# Altium schematic symbol library Transistors.SchLib: 18 symbols
Pins are listed as number, name and electrical type; pins without a type are passive.

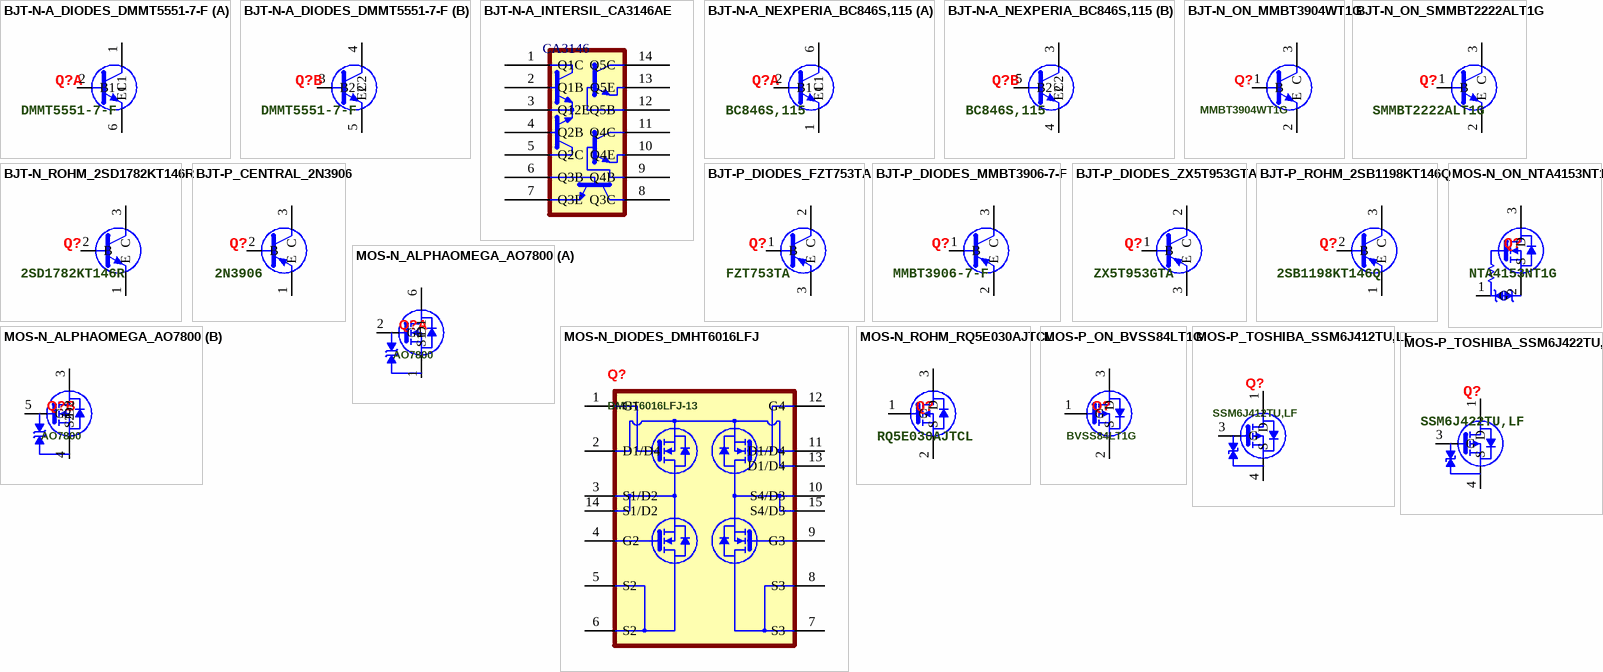
[diagram p0: symbols BJT-N-A_DIODES_DMMT5551-7-F to MOS-P_TOSHIBA_SSM6J422TU,LF]

## BJT-N-A_DIODES_DMMT5551-7-F
designator Q?, comment DMMT5551-7-F
Bipolar (BJT) Transistor Array 2 NPN (Dual) Matched Pair 160V 200mA 300MHz 300mW Surface Mount SOT-26; Manufacturer: Diodes; hFE Min: 80; Collector Base Voltage (VCBO): 180V; Emitter Base Voltage (VEBO): 6V; Collector Emitter Saturation Voltage: 200mV; Manufacturer Part Number: DMMT5551-7-F; Category: Transistors - Bipolar (BJT) - Arrays; Case/Package: SOT-26; Min Operating Temperature: -55°C; Max Operating Temperature: 150°C; Max Collector Current: 200mA; Transition Frequency: 300MHz; Collector Emitter Breakdown Voltage: 160V; Polarity: NPN; Current Rating: 200mA; RoHS Compliant: Yes; ComponentLink1URL: https://www.diodes.com/assets/Datasheets/ds30436.pdf; ComponentLink1Description: Datasheet; Mounting Type: SMD/SMT; Power Dissipation (Max): 300mW; Supplier 1: Digi-Key; Supplier 2: Mouser; Supplier Part Number 1: DMMT5551-FDICT-ND; Supplier Part Number 2: 621-DMMT5551-F
simulation model DMMT5551 (Model Description)
footprint SOT95P285X135-6N (SOT23, 6-Leads, Body 3.00x2.85mm, Pitch 0.95mm, IPC Medium Density)
footprint SOT95P285X135-6L (SOT23, 6-Leads, Body 3.00x2.85mm, Pitch 0.95mm, IPC High Density)
footprint SOT95P285X135-6M (SOT23, 6-Leads, Body 3.00x2.85mm, Pitch 0.95mm, IPC Low Density)
part A pins: 1 C1, 2 B1, 6 E1
part B pins: 3 B2, 4 C2, 5 E2

## BJT-N-A_INTERSIL_CA3146AE
designator CA3146, comment CA3146AE  (value not drawn)
Bipolar (BJT) Transistor Array NPN 72 V 50 mA 500MHz 300 mW Through-Hole PDIP-14 (DIP-14); Manufacturer: Rochester Electronics; Collector Base Voltage (VCBO): 72V; Collector Emitter Breakdown Voltage: 40V; Current Rating: 50mA; Emitter Base Voltage (VEBO): 7V; hFE Min: 30; Supplier 1: Rochester Electronics; Supplier Part Number 1: CA3146AE; Manufacturer Part Number: CA3146AE; Case/Package: 14-PDIP; Category: Transistors - Bipolar (BJT) - Arrays; Max Collector Current: 50mA; Mounting Type: Through Hole; Polarity: NPN; RoHS Compliant: No; Transition Frequency: 500MHz; ComponentLink1Description: Datasheet; ComponentLink1URL: C:\Users\Public\Documents\Altium\Projects\My-PCB-Library\Datasheets\CA3146.pdf
footprint DIP762W52P254L1905H533Q14 (Dual-In-Line Package; Lead Span 7.62mm, Lead Width 0.52mm, Pin Pitch 2.54mm, Body Length 19.05mm, Body Height 5.33mm, Pin Qty 14)
footprint DIP762W52P254L1905H533Q14-SKT (Dual-In-Line Package; Lead Span 7.62mm, Lead Width 0.52mm, Pin Pitch 2.54mm, Body Length 19.05mm, Body Height 5.33mm, Pin Qty 14 Socketed)
pins: 1 Q1C "Diff Pair", 2 Q1B "Diff Pair", 3 Q12E "Diff Pair", 4 Q2B "Diff Pair", 5 Q2C "Diff Pair", 6 Q3B, 7 Q3E, 8 Q3C, 9 Q4B, 10 Q4E, 11 Q4C, 12 Q5B "Substrate", 13 Q5E, 14 Q5C

## BJT-N-A_NEXPERIA_BC846S,115
designator Q?, comment BC846S,115
Bipolar (BJT) Transistor Array 2 NPN (Dual) 65V 100mA 100MHz 300mW Surface Mount 6-TSSOP; Manufacturer: Nexperia; Collector Base Voltage (VCBO): 80V; Collector Emitter Saturation Voltage: 300mV; Current Rating: 200mA; Emitter Base Voltage (VEBO): 6V; hFE Min: 110; Power Dissipation (Max): 200mW; Manufacturer Part Number: BC846S,115; Category: Transistors - Bipolar (BJT) - Arrays; RoHS Compliant: Yes; ComponentLink1URL: https://assets.nexperia.com/documents/data-sheet/BC846S.pdf; ComponentLink1Description: Datasheet; Collector Emitter Breakdown Voltage: 65V; Max Collector Current: 100mA; Mounting Type: SMD/SMT; Polarity: NPN; Supplier 1: Digi-Key; Supplier 2: Mouser; Supplier Part Number 1: 1727-6189-1-ND; Supplier Part Number 2: 771-BC846S-T/R; Transition Frequency: 100MHz
footprint TSOP65P210X110-6N (TSOP, 6-Leads, Body 2.00x1.25mm, Pitch 0.65mm, IPC Medium Density)
footprint TSOP65P210X110-6L (TSOP, 6-Leads, Body 2.00x1.25mm, Pitch 0.65mm, IPC High Density)
footprint TSOP65P210X110-6M (TSOP, 6-Leads, Body 2.00x1.25mm, Pitch 0.65mm, IPC Low Density)
simulation model BC846S (Model Description)
part A pins: 1 E1, 2 B1, 6 C1
part B pins: 3 C2, 4 E2, 5 B2

## BJT-N_ON_MMBT3904WT1G
designator Q?, comment MMBT3904WT1G
Bipolar (BJT) Transistor NPN 40 V 200 mA 300MHz 150 mW Surface Mount SC-70-3 (SOT323); Manufacturer: ON Semiconductor; hFE Min: 40; Max Collector Current: 200mA; Collector Emitter Breakdown Voltage: 40V; Collector Base Voltage (VCBO): 60V; Emitter Base Voltage (VEBO): 6V; Collector Emitter Saturation Voltage: 300mV; Current Rating: 8.6A; Power Dissipation (Max): 150mW; Supplier 1: Digi-Key; Manufacturer Part Number: MMBT3904WT1G; Category: Transistors - Bipolar (BJT) - Single; Case/Package: SOT-323; Min Operating Temperature: -55°C; Max Operating Temperature: 150°C; Polarity: NPN; RoHS Compliant: Yes; ComponentLink1URL: https://www.onsemi.com/pdf/datasheet/mmbt3904wt1-d.pdf; ComponentLink1Description: Datasheet; Supplier Part Number 1: MMBT3904WT1GOSCT-ND; Transition Frequency: 300MHz; Mounting Type: SMD/SMT
footprint SOT65P220X100-3N (SOT23, 3-Leads, Body 2.00x2.20mm, Pitch 0.65mm, IPC Medium Density)
footprint SOT65P220X100-3L (SOT23, 3-Leads, Body 2.00x2.20mm, Pitch 0.65mm, IPC High Density)
footprint SOT65P220X100-3M (SOT23, 3-Leads, Body 2.00x2.20mm, Pitch 0.65mm, IPC Low Density)
simulation model QMMBT3904LT1/ON (Model Description)
pins: 1 B, 2 E, 3 C

## BJT-N_ON_SMMBT2222ALT1G
designator Q?, comment SMMBT2222ALT1G
Bipolar (BJT) Transistor NPN 40 V 600 mA 300MHz 225 mW Surface Mount SOT-23-3 (TO-236); Manufacturer: ON Semiconductor; hFE Min: 100; Max Collector Current: 600mA; Collector Emitter Breakdown Voltage: 40V; Collector Base Voltage (VCBO): 75V; Emitter Base Voltage (VEBO): 6V; Collector Emitter Saturation Voltage: 1V; Power Dissipation (Max): 225mW; Manufacturer Part Number: SMMBT2222ALT1G; Category: Transistors - Bipolar (BJT) - Single; Case/Package: SOT-23-3; Min Operating Temperature: -55°C; Max Operating Temperature: 150°C; Polarity: NPN; RoHS Compliant: Yes; ComponentLink1URL: https://www.digikey.com/htmldatasheets/production/100626/0/0/2/mmbt2222lt1.pdf; ComponentLink1Description: Datasheet; Supplier 1: Digi-Key; Supplier Part Number 1: SMMBT2222ALT1GOSCT-ND; Supplier 2: Mouser; Supplier Part Number 2: 863-SMMBT2222ALT1G; Transition Frequency: 300MHz; Mounting Type: SMD/SMT
simulation model Qmmbt2222alt1g (Model Description)
footprint SOT95P237X111-3N (SOT23, 3-Leads, Body 2.92x2.37mm, Pitch 0.95mm, IPC Medium Density)
footprint SOT95P237X111-3M (SOT23, 3-Leads, Body 2.92x2.37mm, Pitch 0.95mm, IPC Low Density)
footprint SOT95P237X111-3L (SOT23, 3-Leads, Body 2.92x2.37mm, Pitch 0.95mm, IPC High Density)
pins: 1 B, 2 E, 3 C

## BJT-N_ROHM_2SD1782KT146R
designator Q?, comment 2SD1782KT146R
Bipolar (BJT) Transistor NPN 80 V 500 mA 120MHz 200 mW Surface Mount SMT3; Manufacturer: Rohm; hFE Min: 120; Max Collector Current: 500mA; Collector Base Voltage (VCBO): 80V; Emitter Base Voltage (VEBO): 5V; Collector Emitter Saturation Voltage: 500mV; Power Dissipation (Max): 200mW; Manufacturer Part Number: 2SD1782KT146R; Category: Transistors - Bipolar (BJT) - Single; Case/Package: SMT3; Min Operating Temperature: -55°C; Max Operating Temperature: 150°C; Polarity: NPN; Collector Emitter Breakdown Voltage: 80V; Current Rating: 500mA; RoHS Compliant: Yes; ComponentLink1Description: Datasheet; ComponentLink1URL: https://fscdn.rohm.com/en/products/databook/datasheet/discrete/transistor/bipolar/2sd1782k-e.pdf; Supplier 1: Digi-Key; Supplier Part Number 1: 2SD1782KT146RCT-ND; Supplier 2: Mouser; Supplier Part Number 2: 755-2SD1782KT146R; Transition Frequency: 120MHz; Mounting Type: SMD/SMT
footprint SOT95P280X130-3N (SOT23, 3-Leads, Body 2.90x2.80mm, Pitch 0.95mm, IPC Medium Density)
footprint SOT95P280X130-3L (SOT23, 3-Leads, Body 2.90x2.80mm, Pitch 0.95mm, IPC High Density)
footprint SOT95P280X130-3M (SOT23, 3-Leads, Body 2.90x2.80mm, Pitch 0.95mm, IPC Low Density)
simulation model Q2SD1782K (Model Description)
pins: 1 E, 2 B, 3 C

## BJT-P_CENTRAL_2N3906
designator Q?, comment 2N3906
Bipolar (BJT) Transistor PNP 40 V 250MHz Through Hole TO-92-3; Manufacturer: Central Semiconductor; hFE Min: 100; Max Collector Current: 50nA; Collector Base Voltage (VCBO): 40V; Emitter Base Voltage (VEBO): 5V; Collector Emitter Saturation Voltage: 400mV; Current Rating: 200mA; Power Dissipation (Max): 625mW; Manufacturer Part Number: 2N3906; Category: Transistors - Bipolar (BJT) - Single; Mounting Type: Through Hole; Case/Package: TO-92; Transition Frequency: 250MHz; Polarity: PNP; Collector Emitter Breakdown Voltage: 40V; RoHS Compliant: Yes; ComponentLink1URL: https://my.centralsemi.com/datasheets/2N3905.PDF; ComponentLink1Description: Datasheet; Max Operating Temperature: 150°C; Min Operating Temperature: -65°C; Supplier 1: Digi-Key; Supplier 2: Mouser; Supplier Part Number 1: 1514-2N3906PBFREE-ND; Supplier Part Number 2: 610-2N3906
footprint TO-226-3 (Transistor Outline 3 Leads)
simulation model 2N3906 (Model Description)
pins: 1 E, 2 B, 3 C

## BJT-P_DIODES_FZT753TA
designator Q?, comment FZT753TA
Bipolar (BJT) Transistor PNP 100 V 2 A 140MHz 2 W Surface Mount SOT-223-3; Manufacturer: Diodes Zetex; Max Collector Current: 2A; Collector Base Voltage (VCBO): 120V; Collector Emitter Breakdown Voltage: 100V; Emitter Base Voltage (VEBO): 5V; Collector Emitter Saturation Voltage: -300mV; Current Rating: -2A; hFE Min: 25; Power Dissipation (Max): 2W; Manufacturer Part Number: FZT753TA; Category: Transistors - Bipolar (BJT) - Single; Case/Package: SOT-223; Min Operating Temperature: -55°C; Max Operating Temperature: 150°C; Transition Frequency: 140MHz; Polarity: PNP; RoHS Compliant: Yes; ComponentLink1URL: https://www.diodes.com/assets/Datasheets/FZT753.pdf; ComponentLink1Description: Datasheet; Supplier 1: Digi-Key; Supplier 2: Mouser; Supplier Part Number 1: FZT753CT-ND; Supplier Part Number 2: 522-FZT753TA; Mounting Type: SMD/SMT
footprint SOT230P700X160-4N (SOT223, 4-Leads, Body 6.50x7.00mm (avg), Pitch 2.30mm, IPC Medium Density)
footprint SOT230P700X160-4L (SOT223, 4-Leads, Body 6.50x7.00mm (avg), Pitch 2.30mm, IPC High Density)
footprint SOT230P700X160-4M (SOT223, 4-Leads, Body 6.50x7.00mm (avg), Pitch 2.30mm, IPC Low Density)
simulation model FZT753 (Model Description)
pins: 1 B, 2 C, 3 E, TAB C

## BJT-P_DIODES_MMBT3906-7-F
designator Q?, comment MMBT3906-7-F
Bipolar (BJT) Transistor PNP 40 V 200 mA 250MHz 300 mW Surface Mount SOT-23-3; Manufacturer: Diodes Zetex; hFE Min: 100; Max Collector Current: 200mA; Collector Emitter Breakdown Voltage: 40V; Emitter Base Voltage (VEBO): -5V; Collector Emitter Saturation Voltage: -400mV; Current Rating: -200mA; Power Dissipation (Max): 300mW; Manufacturer Part Number: MMBT3906-7-F; Category: Transistors - Bipolar (BJT) - Single; Case/Package: SOT-23-3; Min Operating Temperature: -55°C; Max Operating Temperature: 150°C; Polarity: PNP; Transition Frequency: 250MHz; Collector Base Voltage (VCBO): 40V; RoHS Compliant: Yes; ComponentLink1URL: https://www.digikey.com/htmldatasheets/production/61187/0/0/1/mmbt3906-7-f.pdf; ComponentLink1Description: Datasheet; Supplier 1: Digi-Key; Supplier 2: Mouser; Supplier Part Number 1: MMBT3906-FDICT-ND; Supplier Part Number 2: 621-MMBT3906-F; Mounting Type: SMD/SMT
simulation model DI_MMBT3906 (Model Description)
footprint SOT95P237X111-3N (SOT23, 3-Leads, Body 2.92x2.37mm, Pitch 0.95mm, IPC Medium Density)
footprint SOT95P237X111-3L (SOT23, 3-Leads, Body 2.92x2.37mm, Pitch 0.95mm, IPC High Density)
footprint SOT95P237X111-3M (SOT23, 3-Leads, Body 2.92x2.37mm, Pitch 0.95mm, IPC Low Density)
pins: 1 B, 2 E, 3 C

## BJT-P_DIODES_ZX5T953GTA
designator Q?, comment ZX5T953GTA
Bipolar (BJT) Transistor PNP 100 V 5 A 125MHz 3 W Surface Mount SOT-223-3; Manufacturer: Diodes Zetex; hFE Min: 15; Max Collector Current: 5A; Collector Emitter Breakdown Voltage: 100V; Collector Base Voltage (VCBO): 140V; Emitter Base Voltage (VEBO): -7V; Collector Emitter Saturation Voltage: -340mV; Current Rating: -5A; Power Dissipation (Max): 3W; Manufacturer Part Number: ZX5T953GTA; Category: Transistors - Bipolar (BJT) - Single; Case/Package: SOT-223; Min Operating Temperature: -55°C; Max Operating Temperature: 150°C; Polarity: PNP; RoHS Compliant: Yes; ComponentLink1URL: https://www.digikey.com/htmldatasheets/production/120890/0/0/1/zx5t953g.pdf; ComponentLink1Description: Datasheet; Supplier 1: Digi-Key; Supplier 2: Mouser; Supplier Part Number 1: ZX5T953GCT-ND; Supplier Part Number 2: 522-ZX5T953GTA; Transition Frequency: 125MHz; Mounting Type: SMD/SMT
footprint SOT230P700X160-4N (SOT223, 4-Leads, Body 6.50x7.00mm (avg), Pitch 2.30mm, IPC Medium Density)
footprint SOT230P700X160-4L (SOT223, 4-Leads, Body 6.50x7.00mm (avg), Pitch 2.30mm, IPC High Density)
footprint SOT230P700X160-4M (SOT223, 4-Leads, Body 6.50x7.00mm (avg), Pitch 2.30mm, IPC Low Density)
simulation model ZX5T953G (Model Description)
pins: 1 B, 2 C, 3 E, TAB C

## BJT-P_ROHM_2SB1198KT146Q
designator Q?, comment 2SB1198KT146Q
Bipolar (BJT) Transistor PNP 80 V 500 mA 180MHz 200 mW Surface Mount SMT3; Manufacturer: Rohm; Max Collector Current: 500mA; Emitter Base Voltage (VEBO): 5V; Collector Base Voltage (VCBO): 80V; hFE Min: 120; Collector Emitter Saturation Voltage: 500mV; Power Dissipation (Max): 200mW; Manufacturer Part Number: 2SB1198KT146Q; Category: Transistors - Bipolar (BJT) - Single; Case/Package: SMT3; Min Operating Temperature: -55°C; Max Operating Temperature: 150°C; Collector Emitter Breakdown Voltage: 80V; Polarity: PNP; Current Rating: 500mA; ComponentLink1URL: https://www.digikey.com/htmldatasheets/production/107824/0/0/1/2sb1198k.pdf; ComponentLink1Description: Datasheet; RoHS Compliant: Yes; Supplier 1: Digi-Key; Supplier 2: Mouser; Supplier Part Number 1: 2SB1198KT146QCT-ND; Supplier Part Number 2: 755-2SB1198KT146Q; Transition Frequency: 180MHz; Mounting Type: SMD/SMT
footprint SOT95P280X130-3N (SOT23, 3-Leads, Body 2.90x2.80mm, Pitch 0.95mm, IPC Medium Density)
footprint SOT95P280X130-3L (SOT23, 3-Leads, Body 2.90x2.80mm, Pitch 0.95mm, IPC High Density)
footprint SOT95P280X130-3M (SOT23, 3-Leads, Body 2.90x2.80mm, Pitch 0.95mm, IPC Low Density)
simulation model Q2SB1198K (Model Description)
pins: 1 E, 2 B, 3 C

## MOS-N_ALPHAOMEGA_AO7800
designator Q?, comment AO7800
Mosfet Array 2 N-Channel (Dual) 20V 900mA 300mW Surface Mount SC-70-6; Manufacturer: Alpha & Omega Semiconductor; Input Capacitance: 120pF; Drive Voltage (Max Rds On, Min Rds On): 1.8V, 4.5V; Rds On (Max) @ Id, Vgs: 300mR @900mA, 4.5V; Vgs (Max): ±8V; Vgs(th) (Max) @ Id: 900mV; Manufacturer Part Number: AO7800; Category: Transistors - FETs, MOSFETs - Arrays; Case/Package: SOT-363; Min Operating Temperature: -55°C; Max Operating Temperature: 150°C; Drain to Source Voltage (Vdss): 20V; FET Type: 2 N-Channel; RoHS Compliant: Yes; ComponentLink1URL: http://www.aosmd.com/res/data_sheets/AO7800.pdf; ComponentLink1Description: Datasheet; Supplier Part Number 1: 785-1094-2-ND; Current - Continuous Drain (Id): 900mA; Power Dissipation (Max): 300mW; Technology: MOSFET (Metal Oxide); Supplier 1: Digi-Key; Mounting Type: SMD/SMT
footprint SOT65P210X100-6N (SOT23, 6-Leads, Body 2.00x2.10mm, Pitch 0.65mm, IPC Medium Density)
footprint SOT65P210X100-6L (SOT23, 6-Leads, Body 2.00x2.10mm, Pitch 0.65mm, IPC High Density)
footprint SOT65P210X100-6M (SOT23, 6-Leads, Body 2.00x2.10mm, Pitch 0.65mm, IPC Low Density)
simulation model FDG6335N (Model Description)
part A pins: 1 S1, 2 G1, 6 D1
part B pins: 3 D2, 4 S2, 5 G2

## MOS-N_DIODES_DMHT6016LFJ
designator Q?, comment DMHT6016LFJ-13
Mosfet Array 4 N-Channel 14.8A (Ta) Surface Mount V-DFN5045-12; Manufacturer: Diodes; Input Capacitance: 864pF; Drain to Source Voltage (Vdss): 60V; Drive Voltage (Max Rds On, Min Rds On): 4.5V, 10V; Power Dissipation (Max): 2.7W; Rds On (Max) @ Id, Vgs: 22mR @ 10A, 10V; Vgs (Max): ±20V; Vgs(th) (Max) @ Id: 3V @ 250uA; ComponentLink1Description: Datasheet; ComponentLink1URL: https://www.diodes.com/assets/Datasheets/DMHT6016LFJ.pdf; Manufacturer Part Number: DMHT6016LFJ-13; Category: Transistors - FETs, MOSFETs - Arrays; Min Operating Temperature: -55°C; Max Operating Temperature: 150°C; FET Type: 4 N-Channel; Current - Continuous Drain (Id): 14.8A; RoHS Compliant: Yes; Technology: MOSFET (Metal Oxide); Supplier 1: Digi-Key; Supplier Part Number 1: DMHT6016LFJ-13DICT-ND; Supplier 2: Mouser; Supplier Part Number 2: 621-DMHT6016LFJ-13; Case/Package: 12-VDFN EP; Mounting Type: SMD/SMT
footprint DFN80P50X45X85_HS-13N (PSON, 12-Leads, Body 5.00x4.50mm, Pitch 0.80mm, Thermal Pad 1.70x2.50mm, IPC Medium Density)
footprint DFN80P50X45X85_HS-13M (PSON, 12-Leads, Body 5.00x4.50mm, Pitch 0.80mm, Thermal Pad 1.70x2.50mm, IPC Low Density)
footprint DFN80P50X45X85_HS-13L (PSON, 12-Leads, Body 5.00x4.50mm, Pitch 0.80mm, Thermal Pad 1.70x2.50mm, IPC High Density)
simulation model DMHT6016LFJ (Model Description)
pins: 1 G1, 2 D1/D4, 3 S1/D2, 4 G2, 5 S2, 6 S2, 7 S3, 8 S3, 9 G3, 10 S4/D3, 11 D1/D4, 12 G4, 13 D1/D4, 14 S1/D2, 15 S4/D3

## MOS-N_ON_NTA4153NT1G
designator Q?, comment NTA4153NT1G
Mosfet N-Channel 20 V 915mA (Ta) 300mW (Tj) Surface Mount SC-75, SOT-416; Manufacturer: ON Semiconductor; Drain to Source Voltage (Vdss): 20V; Input Capacitance: 110pF; Drive Voltage (Max Rds On, Min Rds On): 1.5V, 4.5V; Rds On (Max) @ Id, Vgs: 230mOhm @ 600mA, 4.5V; Vgs (Max): ±6V; Vgs(th) (Max) @ Id: 1.1V @ 250µA; Manufacturer Part Number: NTA4153NT1G; Category: Transistors - FETs, MOSFETs - Single; Case/Package: SOT-416; Min Operating Temperature: -55°C; Max Operating Temperature: 150°C; RoHS Compliant: Yes; ComponentLink1URL: https://www.onsemi.com/pdf/datasheet/nta4153n-d.pdf; ComponentLink1Description: Datasheet; Current - Continuous Drain (Id): 915mA; FET Type: N-Channel; Power Dissipation (Max): 300mW; Supplier 1: Digi-Key; Supplier Part Number 1: NTA4153NT1GOSCT-ND; Supplier 2: Mouser; Supplier Part Number 2: 863-NTA4153NT1G; Technology: MOSFET (Metal Oxide); Mounting Type: SMD/SMT
footprint SOT50P160X90-3N (SOT23, 3-Leads, Body 1.60x1.60mm, Pitch 0.50mm, IPC Medium Density)
footprint SOT50P160X90-3L (SOT23, 3-Leads, Body 1.60x1.60mm, Pitch 0.50mm, IPC High Density)
footprint SOT50P160X90-3M (SOT23, 3-Leads, Body 1.60x1.60mm, Pitch 0.50mm, IPC Low Density)
simulation model NTA4153N (Model Description)
pins: 1 G, 2 S, 3 D

## MOS-N_ROHM_RQ5E030AJTCL
designator Q?, comment RQ5E030AJTCL
Mosfet N-Channel 30 V 3A (Ta) 1W (Tc) Surface Mount TSMT3; Manufacturer: Rohm; Drain to Source Voltage (Vdss): 30V; Input Capacitance: 240pF; Drive Voltage (Max Rds On, Min Rds On): 4.5V, 10V; Rds On (Max) @ Id, Vgs: 75mOhm @ 3A, 4.5V; Vgs (Max): ±12V; Vgs(th) (Max) @ Id: 1.5V @ 1mA; Manufacturer Part Number: RQ5E030AJTCL; Category: Transistors - FETs, MOSFETs - Single; Case/Package: TSMT3; Min Operating Temperature: -55°C; Max Operating Temperature: 150°C; RoHS Compliant: Yes; ComponentLink1URL: https://www.rohm.com/datasheet?p=RQ5E030AJ&dist=Digi-key&media=referral&source=digi-key.com&campaign=Digi-key; ComponentLink1Description: Datasheet; Current - Continuous Drain (Id): 3A; FET Type: N-Channel; Power Dissipation (Max): 1W; Supplier 1: Digi-Key; Supplier Part Number 1: RQ5E030AJTCLCT-ND; Technology: MOSFET (Metal Oxide); Mounting Type: SMD/SMT
footprint SOT95P280X100-3N (SOT23, 3-Leads, Body 2.90x2.80mm, Pitch 0.95mm, IPC Medium Density)
footprint SOT95P280X100-3L (SOT23, 3-Leads, Body 2.90x2.80mm, Pitch 0.95mm, IPC High Density)
footprint SOT95P280X100-3M (SOT23, 3-Leads, Body 2.90x2.80mm, Pitch 0.95mm, IPC Low Density)
simulation model RQ5E030AJ (Model Description)
pins: 1 G, 2 S, 3 D

## MOS-P_ON_BVSS84LT1G
designator Q?, comment BVSS84LT1G
Mosfet P-Channel 50 V 130mA (Ta) 225mW (Ta) Surface Mount SOT-23-3 (TO-236); Manufacturer: ON Semiconductor; Input Capacitance: 36pF; Drain to Source Voltage (Vdss): 50V; Drive Voltage (Max Rds On, Min Rds On): 5V; Rds On (Max) @ Id, Vgs: 10Ohm @ 100mA, 5V; Vgs (Max): ±20V; Vgs(th) (Max) @ Id: 2V @ 250µA; Supplier 1: Digi-Key; Manufacturer Part Number: BVSS84LT1G; Category: Transistors - FETs, MOSFETs - Single; Case/Package: SOT-23-3; Min Operating Temperature: -55°C; Max Operating Temperature: 150°C; RoHS Compliant: Yes; ComponentLink1URL: https://www.onsemi.com/pdf/datasheet/bss84lt1-d.pdf; ComponentLink1Description: Datasheet; Supplier 2: Mouser; Supplier Part Number 1: BVSS84LT1GOSCT-ND; Supplier Part Number 2: 863-BVSS84LT1G; Current - Continuous Drain (Id): 130mA; FET Type: P-Channel; Power Dissipation (Max): 225mW; Technology: MOSFET (Metal Oxide); Mounting Type: SMD/SMT
footprint SOT95P237X111-3N (SOT23, 3-Leads, Body 2.92x2.37mm, Pitch 0.95mm, IPC Medium Density)
footprint SOT95P237X111-3L (SOT23, 3-Leads, Body 2.92x2.37mm, Pitch 0.95mm, IPC High Density)
footprint SOT95P237X111-3M (SOT23, 3-Leads, Body 2.92x2.37mm, Pitch 0.95mm, IPC Low Density)
simulation model BSS84LT1 (Model Description)
pins: 1 G, 2 S, 3 D

## MOS-P_TOSHIBA_SSM6J412TU,LF
designator Q?, comment SSM6J412TU,LF
Mosfet P-Channel 20 V 4A (Ta) 1W (Ta) Surface Mount UF6; Manufacturer: Toshiba; Drain to Source Voltage (Vdss): 20V; Drive Voltage (Max Rds On, Min Rds On): 1.5V, 4.5V; Rds On (Max) @ Id, Vgs: 42.7mR @ 3A, 4.5V; Vgs(th) (Max) @ Id: 1V @ 1mA; Vgs (Max): ±8V; Input Capacitance: 840pF; Manufacturer Part Number: SSM6J412TU,LF; Category: Transistors - FETs, MOSFETs - Single; ComponentLink1Description: Datasheet; ComponentLink1URL: https://toshiba.semicon-storage.com/info/docget.jsp?did=2403&prodName=SSM6J412TU; FET Type: P-Channel; Technology: MOSFET (Metal Oxide); Current - Continuous Drain (Id): 4A; Power Dissipation (Max): 1W; Case/Package: 6-SMD, Flat Leads; RoHS Compliant: Yes; Supplier 1: Digi-Key; Supplier Part Number 1: SSM6J412TULFCT-ND; Supplier 2: Mouser; Supplier Part Number 2: 757-SSM6J412TU,LF; Max Operating Temperature: 150°C; Min Operating Temperature: -55°C; Mounting Type: SMD/SMT
footprint SOTFL65P210X75-6N (SOTFL, 6-Leads, Body 2.00x2.10mm, Pitch 0.65mm, IPC Medium Density)
footprint SOTFL65P210X75-6M (SOTFL, 6-Leads, Body 2.00x2.10mm, Pitch 0.65mm, IPC Low Density)
footprint SOTFL65P210X75-6L (SOTFL, 6-Leads, Body 2.00x2.10mm, Pitch 0.65mm, IPC High Density)
simulation model PMOS_SSM6J422TU (Model Description)
pins: 1 D, 2 D, 3 G, 4 S, 5 D, 6 D

## MOS-P_TOSHIBA_SSM6J422TU,LF
designator Q?, comment SSM6J422TU,LF
Mosfet P-Channel 20 V 4A (Ta) 1W (Ta) Surface Mount UF6; Manufacturer: Toshiba; Drain to Source Voltage (Vdss): 20V; Drive Voltage (Max Rds On, Min Rds On): 1.5V, 4.5V; Input Capacitance: 840pF; Rds On (Max) @ Id, Vgs: 42.7mR @ 3A, 4.5V; Vgs (Max): +6V, -8V; Vgs(th) (Max) @ Id: 1V @ 1mA; Manufacturer Part Number: SSM6J422TU,LF; Case/Package: 6-SMD, Flat Leads; Category: Transistors - FETs, MOSFETs - Single; ComponentLink1Description: Datasheet; ComponentLink1URL: https://toshiba.semicon-storage.com/info/SSM6J422TU_datasheet_en_20210528.pdf?did=61137&prodName=SSM6J422TU; Current - Continuous Drain (Id): 4A; FET Type: P-Channel; Max Operating Temperature: 150°C; Min Operating Temperature: -55°C; Power Dissipation (Max): 1W; RoHS Compliant: Yes; Supplier 1: Digi-Key; Supplier Part Number 1: SSM6J422TULFCT-ND; Supplier 2: Mouser; Supplier Part Number 2: 757-SSM6J422TULF; Technology: MOSFET (Metal Oxide); Mounting Type: SMD/SMT
footprint SOTFL65P210X75-6N (SOTFL, 6-Leads, Body 2.00x2.10mm, Pitch 0.65mm, IPC Medium Density)
footprint SOTFL65P210X75-6L (SOTFL, 6-Leads, Body 2.00x2.10mm, Pitch 0.65mm, IPC High Density)
footprint SOTFL65P210X75-6M (SOTFL, 6-Leads, Body 2.00x2.10mm, Pitch 0.65mm, IPC Low Density)
simulation model PMOS_SSM6J422TU (Model Description)
pins: 1 D, 2 D, 3 G, 4 S, 5 D, 6 D